# Altium footprint library Terminal Block 2 pins.PcbLib: 1 footprints
Each footprint in its own frame and in the unit in brackets; x right, y up, seen from the top. Pads: shape width x height; smd on the part's side, far side on the other; paste and mask are expansions set on the pad; w line width, h text height; cw(c..) or ccw(c..) is an arc to the next point about the centre after c.
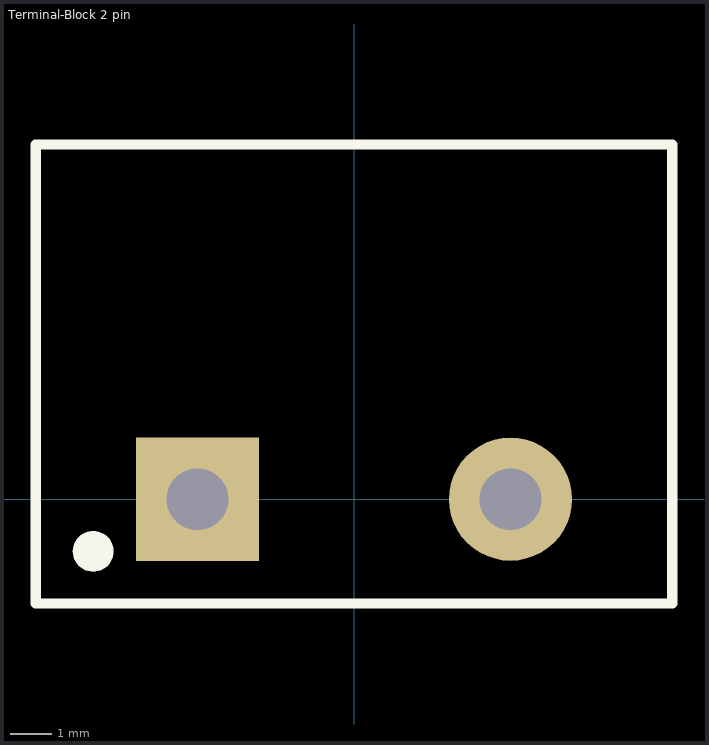
[diagram p0: the footprint, top view; thin cyan lines are the x and y axes]

## Terminal-Block 2 pin [mm]
pads (3):
  round 1 on Top Overlay: ""(-6.35,-1.27)
  rect 3x3 hole 1.5: ""(-3.81,0)
  round 3 hole 1.5: ""(3.81,0)
Top Overlay:
  lines w0.254: -7.747,-2.54 -7.747,8.636 7.747,8.636 7.747,-2.54 -7.747,-2.54
3D body "BR-76231M-02.stp": height 10.4, standoff -4, extent -7.62,-1.397 7.62,8.603